# Altium schematic symbol library Schematic-Lib-PhilsLab.SchLib: 436 symbols (part 5 of 5)
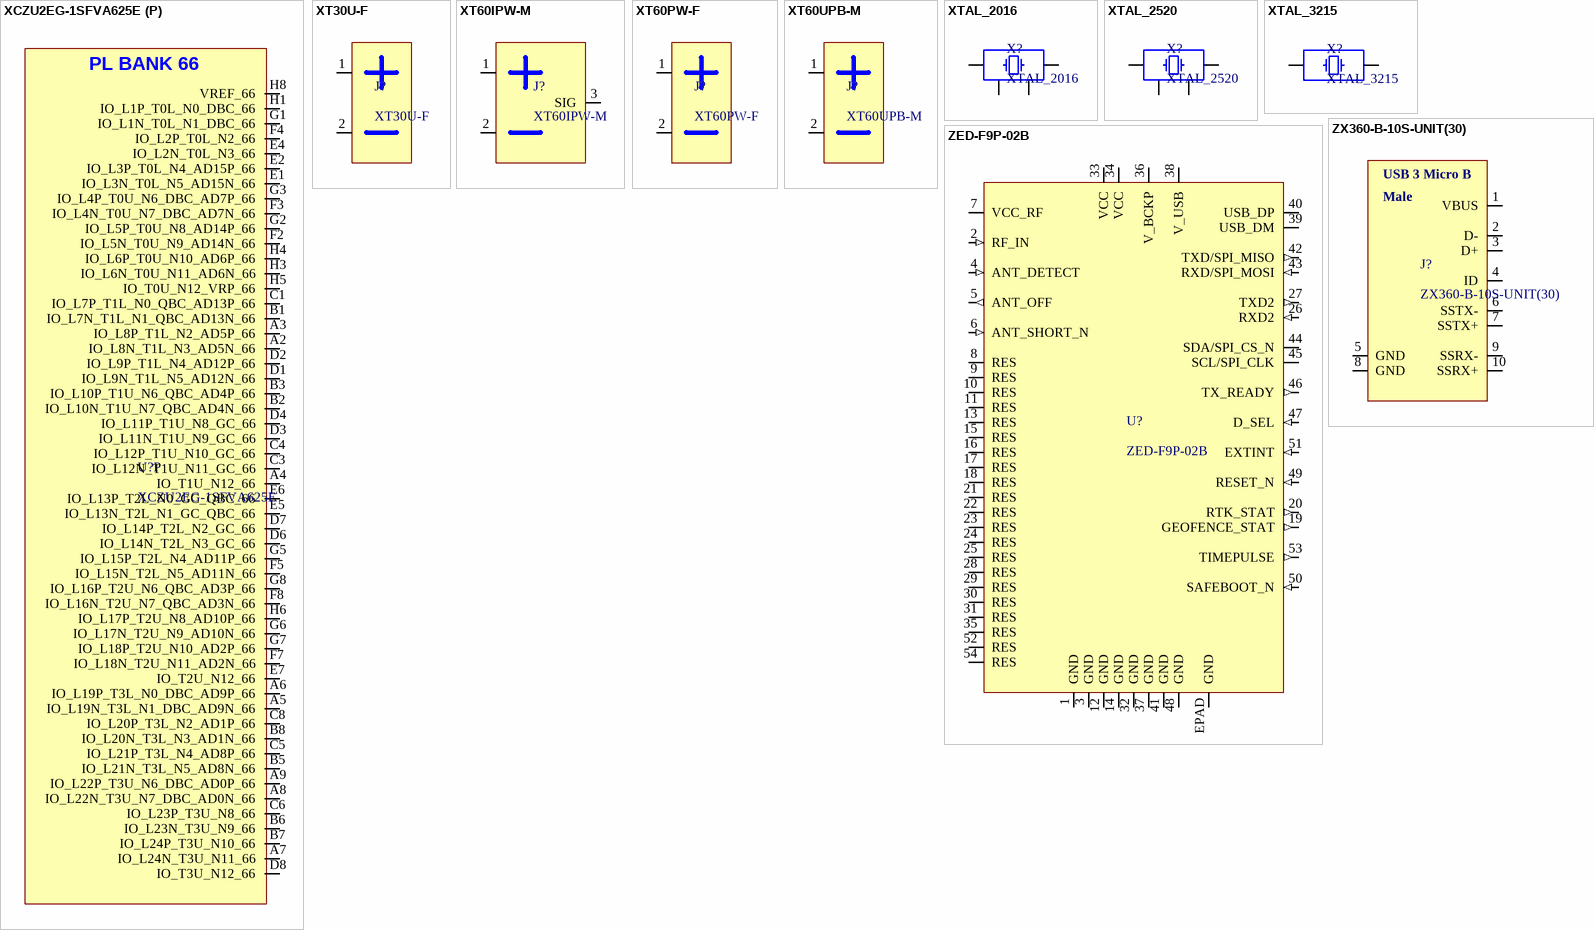
[diagram p31: symbols XCZU2EG-1SFVA625E to ZX360-B-10S-UNIT(30)]

## XCZU2EG-1SFVA625E
designator U?
Zynq UltraScale+ MPSoC; Manufacturer: AMD/Xilinx; Manufacturer Part Number: XCZU2EG-1SFVA625E; Distributor Link: https://www.mouser.de/ProductDetail/Xilinx/XCZU2EG-1SFVA625E?qs=rrS6PyfT74cI4ppXP%2FAXTw%3D%3D; LCSC: C1550287
footprint SFVA625
part A pins: A1 GND (power), A11 GND (power), A16 GND (power), A21 GND (power), A25 GND (power), AA1 GND (power), AA11 GND (power), AA16 GND (power), AB4 GND (power), AB14 GND (power), AB19 GND (power), AC2 GND (power), AC7 GND (power), AC12 GND (power), AC22 GND (power), AD10 GND (power), AD15 GND (power), AD25 GND (power), AE5 GND (power), AE8 GND (power), AE13 GND (power), AE18 GND (power), AE23 GND (power), B4 GND (power), B9 GND (power), B14 GND (power), B19 GND (power), B21 GND (power), B23 GND (power), C2 GND (power), C7 GND (power), C12 GND (power), C17 GND (power), C21 GND (power), C24 GND (power), C25 GND (power), D21 GND (power), D23 GND (power), E3 GND (power), E21 GND (power), E24 GND (power), E25 GND (power), F1 GND (power), F6 GND (power), F16 GND (power), F21 GND (power), F23 GND (power), G9 GND (power), G21 GND (power), G24 GND (power), G25 GND (power), H2 GND (power), H7 GND (power), H12 GND (power), H17 GND (power), H21 GND (power), H23 GND (power), J5 GND (power), J9 GND (power), J11 GND (power), J13 GND (power), J15 GND (power), J21 GND (power), J24 GND (power), J25 GND (power), K3 GND (power), K8 GND (power), K10 GND (power), K12 GND (power), K14 GND (power), K21 GND (power), K23 GND (power), L1 GND (power), L11 GND (power), L13 GND (power), L16 GND (power), L21 GND (power), L24 GND (power), L25 GND (power), M4 GND (power), M10 GND (power), M14 GND (power), M19 GND (power), M21 GND (power), M22 GND (power), M23 GND (power), N2 GND (power), N7 GND (power), N9 GND (power), N11 GND (power), N17 GND (power), N23 GND (power), N24 GND (power), N25 GND (power), P10 GND (power), P14 GND (power), P16 GND (power), P20 GND (power), P25 GND (power), R3 GND (power), R11 GND (power), R18 GND (power), R23 GND (power), T1 GND (power), T6 GND (power), T8 GND (power), T10 GND (power), T12 GND (power), T14 GND (power), T16 GND (power), T18 GND_PSADC (power), T21 GND (power), U11 GND (power), U13 GND (power), U19 GND (power), U24 GND (power), V2 GND (power), V17 GND (power), W5 GND (power), W20 GND (power), W25 GND (power), Y3 GND (power), Y8 GND (power), Y13 GND (power), Y23 GND (power)
part B pins: A24 PS_MGTRAVTT (power), B22 PS_MGTRAVTT (power), D22 PS_MGTRAVTT (power), F22 PS_MGTRAVCC (power), H22 PS_MGTRAVCC (power), M15 VCC_PSPLL (power), M16 VCC_PSPLL (power), M17 VCC_PSPLL (power), N15 VCC_PSDDR_PLL (power), N16 VCC_PSDDR_PLL (power), N18 VCC_PSAUX (power), N19 VCC_PSBATT (power), P15 VCC_PSINTLP (power), P17 VCC_PSINTLP (power), P18 VCC_PSAUX (power), P19 VCC_PSAUX (power), R15 VCC_PSINTLP (power), R16 VCC_PSINTLP (power), R17 VCC_PSINTLP (power), R19 VCC_PSAUX (power), R20 VCC_PSINTFP_DDR (power), T15 VCC_PSINTFP (power), T17 VCC_PSINTLP (power), T19 VCC_PSADC (power), T20 VCC_PSINTFP_DDR (power), U15 VCC_PSINTFP (power), U16 VCC_PSINTFP (power), U17 VCC_PSINTFP (power), U18 VCC_PSINTFP (power), U20 VCC_PSINTFP_DDR (power), V15 VCC_PSINTFP (power), V16 VCC_PSINTFP (power)
part C pins: J8 VCCAUX_IO (power), J10 VCCINT (power), J12 VCCINT (power), J14 VCCINT (power), K9 VCCINT (power), K11 VCCINT (power), K13 VCCINT (power), L8 VCCAUX_IO (power), L9 VCCAUX (power), L10 VCCINT (power), L12 VCCINT (power), L14 VCCINT (power), M8 VCCAUX_IO (power), M9 VCCAUX (power), M11 VCCINT (power), N8 VCCINT_IO (power), N10 VCCINT (power), N14 VCCINT (power), P8 VCCINT_IO (power), P9 VCCBRAM (power), P11 VCCINT (power), R8 VCCINT_IO (power), R9 VCCBRAM (power), R10 VCCINT (power), R14 VCCINT (power), T9 VCCBRAM (power), T11 VCCINT (power), T13 VCCINT (power), U8 VCCINT_IO (power), U9 VCCBRAM (power), U10 VCCINT (power), U12 VCCINT (power), U14 VCCINT (power)
part D pins: AA21 VCCO_PSDDR_504 (power), AB24 VCCO_PSDDR_504 (power), AC17 VCCO_PSDDR_504 (power), AD20 VCCO_PSDDR_504 (power), AE25 VCCO_PSDDR_504 (power), D15 VCCO_PSIO1_501 (power), D20 VCCO_PSIO2_502 (power), E13 VCCO_PSIO1_501 (power), E18 VCCO_PSIO2_502 (power), G14 VCCO_PSIO1_501 (power), G19 VCCO_PSIO2_502 (power), J20 VCCO_PSIO3_503 (power), K18 VCCO_PSIO3_503 (power), V12 VCCO_PSIO0_500 (power), V22 VCCO_PSDDR_504 (power), W10 VCCO_PSIO0_500 (power), W15 VCCO_PSIO0_500 (power), Y18 VCCO_PSDDR_504 (power)
part E pins: AA6 VCCO_64 (power), AB9 VCCO_64 (power), D5 VCCO_66 (power), D10 VCCO_26 (power), E8 VCCO_66 (power), F11 VCCO_26 (power), G4 VCCO_66 (power), L6 VCCO_65 (power), P5 VCCO_65 (power), U4 VCCO_65 (power), V7 VCCO_64 (power)
part F pins: AA10 PS_MIO5 (io), AA12 PS_MIO20 (io), AB10 PS_MIO9 (io), AB11 PS_MIO12 (io), AB12 PS_MIO18 (io), AC10 PS_MIO8 (io), AC11 PS_MIO14 (io), AD11 PS_MIO17 (io), AD12 PS_MIO21 (io), AE10 PS_MIO11 (io), AE11 PS_MIO19 (io), AE12 PS_MIO25 (io), V10 PS_MIO0 (io), V11 PS_MIO2 (io), V13 PS_MIO16 (io), V14 PS_MIO23 (io), W9 PS_MIO3 (io), W11 PS_MIO1 (io), W12 PS_MIO10 (io), W13 PS_MIO15 (io), W14 PS_MIO22 (io), Y9 PS_MIO4 (io), Y10 PS_MIO6 (io), Y11 PS_MIO7 (io), Y12 PS_MIO13 (io), Y14 PS_MIO24 (io)
part G pins: A13 PS_MIO30 (io), A14 PS_MIO39 (io), A15 PS_MIO41 (io), B13 PS_MIO29 (io), B15 PS_MIO43 (io), B16 PS_MIO47 (io), C13 PS_MIO31 (io), C14 PS_MIO38 (io), C15 PS_MIO46 (io), C16 PS_MIO48 (io), D13 PS_MIO32 (io), D14 PS_MIO36 (io), D16 PS_MIO51 (io), E14 PS_MIO34 (io), E15 PS_MIO44 (io), E16 PS_MIO50 (io), F13 PS_MIO33 (io), F14 PS_MIO35 (io), F15 PS_MIO42 (io), G13 PS_MIO27 (io), G15 PS_MIO40 (io), G16 PS_MIO49 (io), H13 PS_MIO26 (io), H14 PS_MIO28 (io), H15 PS_MIO37 (io), H16 PS_MIO45 (io)
part H pins: A17 PS_MIO57 (io), A18 PS_MIO58 (io), A19 PS_MIO60 (io), A20 PS_MIO65 (io), B17 PS_MIO55 (io), B18 PS_MIO59 (io), B20 PS_MIO69 (io), C18 PS_MIO61 (io), C19 PS_MIO62 (io), C20 PS_MIO70 (io), D17 PS_MIO56 (io), D18 PS_MIO63 (io), D19 PS_MIO66 (io), E17 PS_MIO53 (io), E19 PS_MIO71 (io), E20 PS_MIO72 (io), F17 PS_MIO54 (io), F18 PS_MIO64 (io), F19 PS_MIO75 (io), F20 PS_MIO73 (io), G17 PS_MIO52 (io), G18 PS_MIO68 (io), G20 PS_MIO74 (io), H18 PS_MIO67 (io), H19 PS_MIO77 (io), H20 PS_MIO76 (io)
part I pins: J16 PS_MODE1 (in), J17 PS_MODE2 (in), J18 PS_MODE0 (in), J19 PS_ERROR_OUT (out), K15 PS_REF_CLK (in), K16 PS_JTAG_TCK (io), K17 PS_PADI (in), K19 PS_PADO (out), K20 PS_MODE3 (in), L15 PS_JTAG_TDI (io), L17 PS_JTAG_TDO (io), L18 PS_JTAG_TMS (io), L19 PS_INIT_B (io), L20 PS_ERROR_STATUS (out), M18 PS_PROG_B (in), M20 PS_POR_B (in), N20 PS_SRST_B (in), N21 PS_DONE (out)
part J pins: AA13 PS_DDR_DQ7 (io), AA14 PS_DDR_DM0 (in), AA15 PS_DDR_DQ21 (io), AA17 PS_DDR_DQS_N2 (io), AA18 PS_DDR_DQ20 (io), AA19 PS_DDR_DQ18 (io), AA20 PS_DDR_A9 (out), AA22 PS_DDR_CK_N1 (out), AA23 PS_DDR_CK_P0 (out), AA24 PS_DDR_CK_N0 (out), AA25 PS_DDR_A3 (out), AB13 PS_DDR_DQ6 (io), AB15 PS_DDR_DQ0 (io), AB16 PS_DDR_DQ9 (io), AB17 PS_DDR_DM1 (out), AB18 PS_DDR_DQ14 (io), AB20 PS_DDR_DQ26 (io), AB21 PS_DDR_DQ29 (io), AB22 PS_DDR_A7 (out), AB23 PS_DDR_A10 (out), AB25 PS_DDR_A2 (out), AC13 PS_DDR_DQ5 (io), AC14 PS_DDR_DQS_P0 (io), AC15 PS_DDR_DQ2 (io), AC16 PS_DDR_DQ8 (io), AC18 PS_DDR_DQ15 (io), AC19 PS_DDR_DQ27 (io), AC20 PS_DDR_DQS_P3 (io), AC21 PS_DDR_DQS_N3 (io), AC23 PS_DDR_A12 (out), AC24 PS_DDR_A14 (out), AC25 PS_DDR_A5 (out), AD13 PS_DDR_DQ4 (io), AD14 PS_DDR_DQS_N0 (io), AD16 PS_DDR_DQ10 (io), AD17 PS_DDR_DQS_P1 (io), AD18 PS_DDR_DQ13 (io), AD19 PS_DDR_DQ25 (io), AD21 PS_DDR_DM3 (out), AD22 PS_DDR_DQ31 (io), AD23 PS_DDR_A15 (out), AD24 PS_DDR_A11 (out), AE14 PS_DDR_DQ3 (io), AE15 PS_DDR_DQ1 (io), AE16 PS_DDR_DQ11 (io), AE17 PS_DDR_DQS_N1 (io), AE19 PS_DDR_DQ12 (io), AE20 PS_DDR_DQ24 (io), AE21 PS_DDR_DQ28 (io), AE22 PS_DDR_DQ30 (io), AE24 PS_DDR_A13 (out), N22 PS_DDR_DQ69 (io), P21 PS_DDR_DQ70 (io), P22 PS_DDR_DQS_P8 (io), P23 PS_DDR_DM8 (out), P24 PS_DDR_DQ67 (io), R21 PS_DDR_DQ71 (io), R22 PS_DDR_DQS_N8 (io), R24 PS_DDR_DQ65 (io), R25 PS_DDR_DQ66 (io), T22 PS_DDR_DQ68 (io), T23 PS_DDR_DQ64 (io), T24 PS_DDR_CKE0 (out), T25 PS_DDR_CS_N0 (out), U21 PS_DDR_RAM_RST_N (out), U22 PS_DDR_ZQ (out), U23 PS_DDR_ALERT_N (in), U25 PS_DDR_A0 (out), V18 PS_DDR_ACT_N (out), V19 PS_DDR_BG0 (out), V20 PS_DDR_BA1 (out), V21 PS_DDR_BG1 (out), V23 PS_DDR_PARITY (out), V24 PS_DDR_ODT0 (out), V25 PS_DDR_A4 (out), W16 PS_DDR_DQ19 (io), W17 PS_DDR_DM2 (out), W18 PS_DDR_DQ16 (io), W19 PS_DDR_A17 (out), W21 PS_DDR_A6 (out), W22 PS_DDR_BA0 (out), W23 PS_DDR_CS_N1 (out), W24 PS_DDR_CKE1 (out), Y15 PS_DDR_DQ23 (io), Y16 PS_DDR_DQ22 (io), Y17 PS_DDR_DQS_P2 (io), Y19 PS_DDR_DQ17 (io), Y20 PS_DDR_A8 (out), Y21 PS_DDR_A16 (out), Y22 PS_DDR_CK_P1 (out), Y24 PS_DDR_ODT1 (out), Y25 PS_DDR_A1 (out)
part K pins: A22 PS_MGTRTXP3_505 (out), A23 PS_MGTRTXN3_505 (out), B24 PS_MGTRRXP3_505 (in), B25 PS_MGTRRXN3_505 (in), C22 PS_MGTRTXP2_505 (out), C23 PS_MGTRTXN2_505 (out), D24 PS_MGTRRXP2_505 (in), D25 PS_MGTRRXN2_505 (in), E22 PS_MGTREFCLK3P_505 (in), E23 PS_MGTREFCLK3N_505 (in), F24 PS_MGTRTXP1_505 (out), F25 PS_MGTRTXN1_505 (out), G22 PS_MGTREFCLK2P_505 (in), G23 PS_MGTREFCLK2N_505 (in), H24 PS_MGTRRXP1_505 (in), H25 PS_MGTRRXN1_505 (in), J22 PS_MGTREFCLK1P_505 (in), J23 PS_MGTREFCLK1N_505 (in), K22 PS_MGTRREF_505 (in), K24 PS_MGTRTXP0_505 (out), K25 PS_MGTRTXN0_505 (out), L22 PS_MGTREFCLK0P_505 (in), L23 PS_MGTREFCLK0N_505 (in), M24 PS_MGTRRXP0_505 (in), M25 PS_MGTRRXN0_505 (in)
part L pins: M12 GNDADC (power), M13 VCCADC (power), N12 VREFN, N13 VP (in), P12 VN (in), P13 VREFP, R12 DXN (in), R13 DXP (in), V8 PUDC_B (in), V9 POR_OVERRIDE (in)
part M pins: A10 IO_L3N_AD9N_26 (io), A12 IO_L2N_AD10N_26 (io), B10 IO_L4N_AD8N_26 (io), B11 IO_L3P_AD9P_26 (io), B12 IO_L2P_AD10P_26 (io), C9 IO_L6N_HDGC_AD6N_26 (io), C10 IO_L4P_AD8P_26 (io), C11 IO_L5N_HDGC_AD7N_26 (io), D9 IO_L6P_HDGC_AD6P_26 (io), D11 IO_L5P_HDGC_AD7P_26 (io), D12 IO_L1N_AD11N_26 (io), E9 IO_L7N_HDGC_AD5N_26 (io), E10 IO_L8N_HDGC_AD4N_26 (io), E11 IO_L8P_HDGC_AD4P_26 (io), E12 IO_L1P_AD11P_26 (io), F9 IO_L7P_HDGC_AD5P_26 (io), F10 IO_L10N_AD2N_26 (io), F12 IO_L12N_AD0N_26 (io), G10 IO_L10P_AD2P_26 (io), G11 IO_L11N_AD1N_26 (io), G12 IO_L12P_AD0P_26 (io), H9 IO_L9N_AD3N_26 (io), H10 IO_L9P_AD3P_26 (io), H11 IO_L11P_AD1P_26 (io)
part N pins: AA2 IO_L19N_T3L_N1_DBC_AD9N_64 (io), AA3 IO_L24N_T3U_N11_64 (io), AA4 IO_L24P_T3U_N10_64 (io), AA5 IO_L11N_T1U_N9_GC_64 (io), AA7 IO_L8N_T1L_N3_AD5N_64 (io), AA8 IO_L7N_T1L_N1_QBC_AD13N_64 (io), AA9 IO_L7P_T1L_N0_QBC_AD13P_64 (io), AB1 IO_L21N_T3L_N5_AD8N_64 (io), AB2 IO_L21P_T3L_N4_AD8P_64 (io), AB3 IO_L13P_T2L_N0_GC_QBC_64 (io), AB5 IO_L14P_T2L_N2_GC_64 (io), AB6 IO_L1P_T0L_N0_DBC_64 (io), AB7 IO_L9N_T1L_N5_AD12N_64 (io), AB8 IO_L9P_T1L_N4_AD12P_64 (io), AC1 IO_T2U_N12_64 (io), AC3 IO_L13N_T2L_N1_GC_QBC_64 (io), AC4 IO_L14N_T2L_N3_GC_64 (io), AC5 IO_T0U_N12_VRP_64 (io), AC6 IO_L1N_T0L_N1_DBC_64 (io), AC8 IO_L6N_T0U_N11_AD6N_64 (io), AC9 IO_L6P_T0U_N10_AD6P_64 (io), AD1 IO_L17P_T2U_N8_AD10P_64 (io), AD2 IO_L15P_T2L_N4_AD11P_64 (io), AD3 IO_L16N_T2U_N7_QBC_AD3N_64 (io), AD4 IO_L16P_T2U_N6_QBC_AD3P_64 (io), AD5 IO_L5N_T0U_N9_AD14N_64 (io), AD6 IO_L5P_T0U_N8_AD14P_64 (io), AD7 IO_L2N_T0L_N3_64 (io), AD8 IO_L2P_T0L_N2_64 (io), AD9 IO_L4P_T0U_N6_DBC_AD7P_64 (io), AE1 IO_L17N_T2U_N9_AD10N_64 (io), AE2 IO_L15N_T2L_N5_AD11N_64 (io), AE3 IO_L18N_T2U_N11_AD2N_64 (io), AE4 IO_L18P_T2U_N10_AD2P_64 (io), AE6 IO_L3N_T0L_N5_AD15N_64 (io), AE7 IO_L3P_T0L_N4_AD15P_64 (io), AE9 IO_L4N_T0U_N7_DBC_AD7N_64 (io), V4 IO_T3U_N12_64 (io), V5 IO_T1U_N12_64 (io), V6 VREF_64, W1 IO_L23P_T3U_N8_64 (io), W2 IO_L20N_T3L_N3_AD1N_64 (io), W3 IO_L20P_T3L_N2_AD1P_64 (io), W4 IO_L22P_T3U_N6_DBC_AD0P_64 (io), W6 IO_L12P_T1U_N10_GC_64 (io), W7 IO_L10N_T1U_N7_QBC_AD4N_64 (io), W8 IO_L10P_T1U_N6_QBC_AD4P_64 (io), Y1 IO_L23N_T3U_N9_64 (io), Y2 IO_L19P_T3L_N0_DBC_AD9P_64 (io), Y4 IO_L22N_T3U_N7_DBC_AD0N_64 (io), Y5 IO_L11P_T1U_N8_GC_64 (io), Y6 IO_L12N_T1U_N11_GC_64 (io), Y7 IO_L8P_T1L_N2_AD5P_64 (io)
part O pins: J1 IO_L15N_T2L_N5_AD11N_65 (io), J2 IO_L17N_T2U_N9_AD10N_65 (io), J3 IO_L17P_T2U_N8_AD10P_65 (io), J4 IO_L23N_T3U_N9_65 (io), J6 IO_L24N_T3U_N11_PERSTN0_65 (io), J7 IO_L24P_T3U_N10_PERSTN1_I2C_SDA_65 (io), K1 IO_L15P_T2L_N4_AD11P_65 (io), K2 IO_L18N_T2U_N11_AD2N_65 (io), K4 IO_L23P_T3U_N8_I2C_SCLK_65 (io), K5 IO_L21N_T3L_N5_AD8N_65 (io), K6 IO_L21P_T3L_N4_AD8P_65 (io), K7 IO_L22N_T3U_N7_DBC_AD0N_65 (io), L2 IO_L18P_T2U_N10_AD2P_65 (io), L3 IO_L13N_T2L_N1_GC_QBC_65 (io), L4 IO_T2U_N12_65 (io), L5 IO_L19N_T3L_N1_DBC_AD9N_65 (io), L7 IO_L22P_T3U_N6_DBC_AD0P_65 (io), M1 IO_L16N_T2U_N7_QBC_AD3N_65 (io), M2 IO_L16P_T2U_N6_QBC_AD3P_65 (io), M3 IO_L13P_T2L_N0_GC_QBC_65 (io), M5 IO_L20N_T3L_N3_AD1N_65 (io), M6 IO_L19P_T3L_N0_DBC_AD9P_65 (io), M7 IO_T3U_N12_65 (io), N1 IO_L3P_T0L_N4_AD15P_65 (io), N3 IO_L14N_T2L_N3_GC_65 (io), N4 IO_L14P_T2L_N2_GC_65 (io), N5 IO_L20P_T3L_N2_AD1P_65 (io), N6 VREF_65, P1 IO_L3N_T0L_N5_AD15N_65 (io), P2 IO_L5N_T0U_N9_AD14N_65 (io), P3 IO_L5P_T0U_N8_AD14P_65 (io), P4 IO_L11P_T1U_N8_GC_65 (io), P6 IO_L10N_T1U_N7_QBC_AD4N_65 (io), P7 IO_L10P_T1U_N6_QBC_AD4P_65 (io), R1 IO_L1N_T0L_N1_DBC_65 (io), R2 IO_L1P_T0L_N0_DBC_65 (io), R4 IO_L11N_T1U_N9_GC_65 (io), R5 IO_L12N_T1U_N11_GC_65 (io), R6 IO_L12P_T1U_N10_GC_65 (io), R7 IO_L8P_T1L_N2_AD5P_65 (io), T2 IO_T0U_N12_VRP_65 (io), T3 IO_L6P_T0U_N10_AD6P_65 (io), T4 IO_L9N_T1L_N5_AD12N_65 (io), T5 IO_L9P_T1L_N4_AD12P_65 (io), T7 IO_L8N_T1L_N3_AD5N_65 (io), U1 IO_L2P_T0L_N2_65 (io), U2 IO_L6N_T0U_N11_AD6N_65 (io), U3 IO_L4P_T0U_N6_DBC_AD7P_SMBALERT_65 (io), U5 IO_L7N_T1L_N1_QBC_AD13N_65 (io), U6 IO_L7P_T1L_N0_QBC_AD13P_65 (io), U7 IO_T1U_N12_65 (io), V1 IO_L2N_T0L_N3_65 (io), V3 IO_L4N_T0U_N7_DBC_AD7N_65 (io)
part P pins: A2 IO_L8N_T1L_N3_AD5N_66 (io), A3 IO_L8P_T1L_N2_AD5P_66 (io), A4 IO_T1U_N12_66 (io), A5 IO_L19N_T3L_N1_DBC_AD9N_66 (io), A6 IO_L19P_T3L_N0_DBC_AD9P_66 (io), A7 IO_L24N_T3U_N11_66 (io), A8 IO_L22N_T3U_N7_DBC_AD0N_66 (io), A9 IO_L22P_T3U_N6_DBC_AD0P_66 (io), B1 IO_L7N_T1L_N1_QBC_AD13N_66 (io), B2 IO_L10N_T1U_N7_QBC_AD4N_66 (io), B3 IO_L10P_T1U_N6_QBC_AD4P_66 (io), B5 IO_L21N_T3L_N5_AD8N_66 (io), B6 IO_L23N_T3U_N9_66 (io), B7 IO_L24P_T3U_N10_66 (io), B8 IO_L20N_T3L_N3_AD1N_66 (io), C1 IO_L7P_T1L_N0_QBC_AD13P_66 (io), C3 IO_L12N_T1U_N11_GC_66 (io), C4 IO_L12P_T1U_N10_GC_66 (io), C5 IO_L21P_T3L_N4_AD8P_66 (io), C6 IO_L23P_T3U_N8_66 (io), C8 IO_L20P_T3L_N2_AD1P_66 (io), D1 IO_L9N_T1L_N5_AD12N_66 (io), D2 IO_L9P_T1L_N4_AD12P_66 (io), D3 IO_L11N_T1U_N9_GC_66 (io), D4 IO_L11P_T1U_N8_GC_66 (io), D6 IO_L14N_T2L_N3_GC_66 (io), D7 IO_L14P_T2L_N2_GC_66 (io), D8 IO_T3U_N12_66 (io), E1 IO_L3N_T0L_N5_AD15N_66 (io), E2 IO_L3P_T0L_N4_AD15P_66 (io), E4 IO_L2N_T0L_N3_66 (io), E5 IO_L13N_T2L_N1_GC_QBC_66 (io), E6 IO_L13P_T2L_N0_GC_QBC_66 (io), E7 IO_T2U_N12_66 (io), F2 IO_L5N_T0U_N9_AD14N_66 (io), F3 IO_L4N_T0U_N7_DBC_AD7N_66 (io), F4 IO_L2P_T0L_N2_66 (io), F5 IO_L15N_T2L_N5_AD11N_66 (io), F7 IO_L18N_T2U_N11_AD2N_66 (io), F8 IO_L16N_T2U_N7_QBC_AD3N_66 (io), G1 IO_L1N_T0L_N1_DBC_66 (io), G2 IO_L5P_T0U_N8_AD14P_66 (io), G3 IO_L4P_T0U_N6_DBC_AD7P_66 (io), G5 IO_L15P_T2L_N4_AD11P_66 (io), G6 IO_L17N_T2U_N9_AD10N_66 (io), G7 IO_L18P_T2U_N10_AD2P_66 (io), G8 IO_L16P_T2U_N6_QBC_AD3P_66 (io), H1 IO_L1P_T0L_N0_DBC_66 (io), H3 IO_L6N_T0U_N11_AD6N_66 (io), H4 IO_L6P_T0U_N10_AD6P_66 (io), H5 IO_T0U_N12_VRP_66 (io), H6 IO_L17P_T2U_N8_AD10P_66 (io), H8 VREF_66
part A text: XCZU GND
part B text: PS CORE PWR
part C text: PL CORE PWR
part D text: PS BANK PWR
part E text: PL BANK PWR
part F text: PS BANK 500
part G text: PS BANK 501
part H text: PS BANK 502
part I text: PS BANK 503 (CFG)
part J text: PS BANK 504 (DDR)
part K text: MGT BANK 505
part L text: BANK 0
part M text: PL BANK 26
part N text: PL BANK 64
part O text: PL BANK 65
part P text: PL BANK 66

## XT30U-F
designator J?
XT30 female 15A 2-pin AMASS; Manufacturer: AMASS; Manufacturer Part Number: XT30U-F
footprint XT30U-F
pins: 1 V+ (power), 2 V- (power)

## XT60IPW-M
designator J?
XT60 male 30A 3-pin AMASS; Manufacturer: AMASS; Manufacturer Part Number: XT60IPW-M
footprint XT60IPW-M
pins: 1 V+ (power), 2 V- (power), 3 SIG

## XT60PW-F
designator J?
XT60 horizontal female 2-pin AMASS; Manufacturer: AMASS; Manufacturer Part Number: XT60PW-F; Distributor Link: https://www.tme.eu/de/details/xt60pw-f/dc-steckverbinder/amass/
footprint XT60PW-F
pins: 1 V+ (power), 2 V- (power)

## XT60UPB-M
designator J?
XT60 vertical male 2-pin AMASS; Manufacturer: AMASS; Manufacturer Part Number: XT60UPB-M
footprint XT60UPB-M
pins: 1 V+ (power), 2 V- (power)

## XTAL_2016
designator X?
Crystal SMD 4-Pin 2.0x1.6mm; Distributor Link: *
footprint XTAL_2016
pins: 1, 2, 3, 4

## XTAL_2520
designator X?
Crystal SMD 2520; Distributor Link: *
footprint XTAL_2520
pins: 1, 2, 3, 4

## XTAL_3215
designator X?
Crystal SMD 3215; Distributor Link: *
footprint XTAL_3215-2
pins: 1, 2

## ZED-F9P-02B
designator U?
Multi-Band High-Precision GNSS Receiver u-blox; Manufacturer: u-blox; Manufacturer Part Number: ZED-F9P-02B
footprint ZED-F9P-02B
pins: 1 GND (power), 2 RF_IN (in), 3 GND (power), 4 ANT_DETECT (in), 5 ANT_OFF (out), 6 ANT_SHORT_N (in), 7 VCC_RF (power), 8 RES, 9 RES, 10 RES, 11 RES, 12 GND (power), 13 RES, 14 GND (power), 15 RES, 16 RES, 17 RES, 18 RES, 19 GEOFENCE_STAT (out), 20 RTK_STAT (out), 21 RES, 22 RES, 23 RES, 24 RES, 25 RES, 26 RXD2 (in), 27 TXD2 (out), 28 RES, 29 RES, 30 RES, 31 RES, 32 GND (power), 33 VCC (power), 34 VCC (power), 35 RES, 36 V_BCKP (power), 37 GND (power), 38 V_USB (power), 39 USB_DM (io), 40 USB_DP (io), 41 GND (power), 42 TXD/SPI_MISO (out), 43 RXD/SPI_MOSI (in), 44 SDA/SPI_CS_N (io), 45 SCL/SPI_CLK (io), 46 TX_READY (out), 47 D_SEL (in), 48 GND (power), 49 RESET_N (in), 50 SAFEBOOT_N (in), 51 EXTINT (in), 52 RES, 53 TIMEPULSE (out), 54 RES, EPAD GND

## ZX360-B-10S-UNIT(30)
designator J?
USB 3 Micro B Plug Connector SMT; Manufacturer: Hirose; Manufacturer Part Number: ZX360-B-10S-UNIT(30)
footprint ZX360-B-10S-UNIT(30)
pins: 1 VBUS, 2 D-, 3 D+, 4 ID, 5 GND, 6 SSTX-, 7 SSTX+, 8 GND, 9 SSRX-, 10 SSRX+
text: USB 3 Micro B; Male